# Altium footprint library MAX14930DASEplus.PcbLib: 3 footprints
Each footprint in its own frame and in the unit in brackets; x right, y up, seen from the top. Pads: shape width x height; smd on the part's side, far side on the other; paste and mask are expansions set on the pad; w line width, h text height; cw(c..) or ccw(c..) is an arc to the next point about the centre after c.
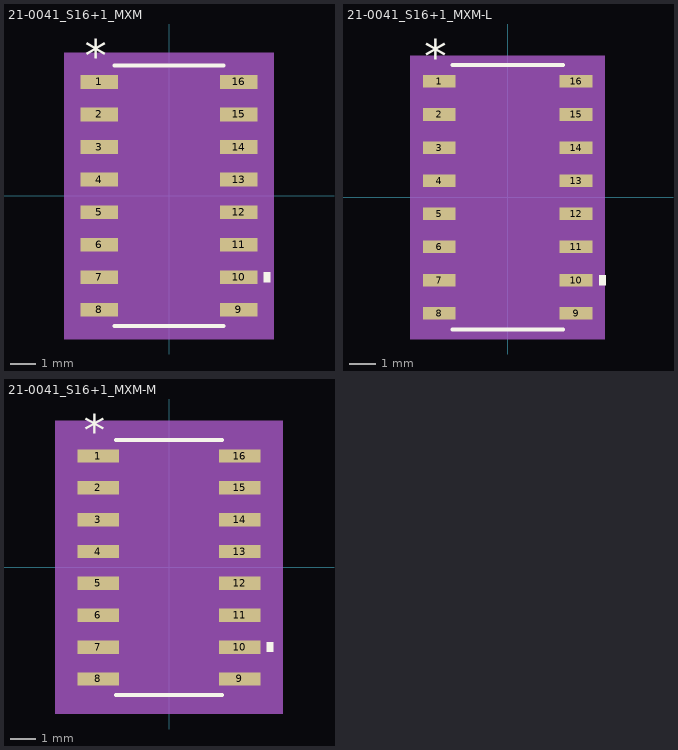
[diagram p0: the footprints below, top view; thin cyan lines are the x and y axes]

## 21-0041_S16+1_MXM [mil]
pads (16):
  rect 57.33x20.97 smd paste+0 mask+0: 1(-107.16,175) 2(-107.16,125) 3(-107.16,75) 4(-107.16,25) 5(-107.16,-25) 6(-107.16,-75) 7(-107.16,-125) 8(-107.16,-175) 9(107.16,-175) 10(107.16,-125) 11(107.16,-75) 12(107.16,-25) 13(107.16,25) 14(107.16,75) 15(107.16,125) 16(107.16,175)
Top Overlay:
  region: 145.83,-117.5 155.83,-117.5 155.83,-132.5 145.83,-132.5
  lines w6: -83.5,-200 83.5,-200 ; -83.5,200 83.5,200
  text "*" at -129.66,190.97 h50
Mechanical 5:
  region: 160.83,-220 -160.83,-220 -160.83,220 160.83,220
Mechanical 13:
  lines w0: -12,195 ccw(c0,195) 12,195
  lines w1: -122.05,-184.5 -78.5,-184.5 -78.5,-165.5 -122.05,-165.5 -122.05,-184.5 ; -122.05,-134.5 -78.5,-134.5 -78.5,-115.5 -122.05,-115.5 -122.05,-134.5 ; -122.05,-84.5 -78.5,-84.5 -78.5,-65.5 -122.05,-65.5 -122.05,-84.5 ; -122.05,-34.5 -78.5,-34.5 -78.5,-15.5 -122.05,-15.5 -122.05,-34.5 ; -122.05,15.5 -78.5,15.5 -78.5,34.5 -122.05,34.5 -122.05,15.5 ; -122.05,65.5 -78.5,65.5 -78.5,84.5 -122.05,84.5 -122.05,65.5 ; -122.05,115.5 -78.5,115.5 -78.5,134.5 -122.05,134.5 -122.05,115.5 ; -122.05,165.5 -78.5,165.5 -78.5,184.5 -122.05,184.5 -122.05,165.5 ; -78.5,-195 -78.5,195 78.5,195 78.5,-195 -78.5,-195 ; 78.5,-184.5 122.05,-184.5 122.05,-165.5 78.5,-165.5 78.5,-184.5 ; 78.5,-134.5 122.05,-134.5 122.05,-115.5 78.5,-115.5 78.5,-134.5 ; 78.5,-84.5 122.05,-84.5 122.05,-65.5 78.5,-65.5 78.5,-84.5 ; 78.5,-34.5 122.05,-34.5 122.05,-15.5 78.5,-15.5 78.5,-34.5 ; 78.5,15.5 122.05,15.5 122.05,34.5 78.5,34.5 78.5,15.5 ; 78.5,65.5 122.05,65.5 122.05,84.5 78.5,84.5 78.5,65.5 ; 78.5,115.5 122.05,115.5 122.05,134.5 78.5,134.5 78.5,115.5 ; 78.5,165.5 122.05,165.5 122.05,184.5 78.5,184.5 78.5,165.5
  text "*" at -76,142 h50
Mechanical 15:
  region: -88.5,-195.48 -145.83,-195.48 -145.83,195.48 -88.5,195.48 -88.5,205 88.5,205 88.5,195.48 145.83,195.48 145.83,-195.48 88.5,-195.48 88.5,-205 -88.5,-205
  lines w6: -145.83,-195.48 -88.5,-195.48 -88.5,-205 88.5,-205 88.5,-195.48 145.83,-195.48 145.83,195.48 88.5,195.48 88.5,205 -88.5,205 -88.5,195.48 -145.83,195.48 -145.83,-195.48
3D body "21-0041_S16+1_MXM.step": height 69.09, standoff 0, extent -122.05,-195 122.05,195

## 21-0041_S16+1_MXM-L [mil]
pads (16):
  rect 49.45x19 smd paste+0 mask+0: 1(-103.23,175) 2(-103.23,125) 3(-103.23,75) 4(-103.23,25) 5(-103.23,-25) 6(-103.23,-75) 7(-103.23,-125) 8(-103.23,-175) 9(103.23,-175) 10(103.23,-125) 11(103.23,-75) 12(103.23,-25) 13(103.23,25) 14(103.23,75) 15(103.23,125) 16(103.23,175)
Top Overlay:
  region: 137.95,-117.5 147.95,-117.5 147.95,-132.5 137.95,-132.5
  lines w6: -83.5,-200 83.5,-200 ; -83.5,200 83.5,200
  text "*" at -125.73,189 h50
Mechanical 5:
  region: 146.95,-214 -146.95,-214 -146.95,214 146.95,214
Mechanical 13:
  lines w0: -12,195 ccw(c0,195) 12,195
  lines w1: -122.05,-184.5 -122.05,-165.5 -78.5,-165.5 -78.5,-184.5 -122.05,-184.5 ; -122.05,-134.5 -122.05,-115.5 -78.5,-115.5 -78.5,-134.5 -122.05,-134.5 ; -122.05,-84.5 -122.05,-65.5 -78.5,-65.5 -78.5,-84.5 -122.05,-84.5 ; -122.05,-34.5 -122.05,-15.5 -78.5,-15.5 -78.5,-34.5 -122.05,-34.5 ; -122.05,15.5 -122.05,34.5 -78.5,34.5 -78.5,15.5 -122.05,15.5 ; -122.05,65.5 -122.05,84.5 -78.5,84.5 -78.5,65.5 -122.05,65.5 ; -122.05,115.5 -122.05,134.5 -78.5,134.5 -78.5,115.5 -122.05,115.5 ; -122.05,165.5 -122.05,184.5 -78.5,184.5 -78.5,165.5 -122.05,165.5 ; -78.5,-195 78.5,-195 78.5,195 -78.5,195 -78.5,-195 ; 78.5,-184.5 78.5,-165.5 122.05,-165.5 122.05,-184.5 78.5,-184.5 ; 78.5,-134.5 78.5,-115.5 122.05,-115.5 122.05,-134.5 78.5,-134.5 ; 78.5,-84.5 78.5,-65.5 122.05,-65.5 122.05,-84.5 78.5,-84.5 ; 78.5,-34.5 78.5,-15.5 122.05,-15.5 122.05,-34.5 78.5,-34.5 ; 78.5,15.5 78.5,34.5 122.05,34.5 122.05,15.5 78.5,15.5 ; 78.5,65.5 78.5,84.5 122.05,84.5 122.05,65.5 78.5,65.5 ; 78.5,115.5 78.5,134.5 122.05,134.5 122.05,115.5 78.5,115.5 ; 78.5,165.5 78.5,184.5 122.05,184.5 122.05,165.5 78.5,165.5
  text "*" at -76,142 h50
Mechanical 15:
  region: -82.5,-188.5 -131.95,-188.5 -131.95,188.5 -82.5,188.5 -82.5,199 82.5,199 82.5,188.5 131.95,188.5 131.95,-188.5 82.5,-188.5 82.5,-199 -82.5,-199
  lines w6: -131.95,-188.5 -131.95,188.5 -82.5,188.5 -82.5,199 82.5,199 82.5,188.5 131.95,188.5 131.95,-188.5 82.5,-188.5 82.5,-199 -82.5,-199 -82.5,-188.5 -131.95,-188.5
3D body "21-0041_S16+1_MXM.step": height 69.09, standoff 0, extent -122.05,-195 122.05,195

## 21-0041_S16+1_MXM-M [mil]
pads (16):
  rect 65.2x20.97 smd paste+0 mask+0: 1(-111.1,175) 2(-111.1,125) 3(-111.1,75) 4(-111.1,25) 5(-111.1,-25) 6(-111.1,-75) 7(-111.1,-125) 8(-111.1,-175) 9(111.1,-175) 10(111.1,-125) 11(111.1,-75) 12(111.1,-25) 13(111.1,25) 14(111.1,75) 15(111.1,125) 16(111.1,175)
Top Overlay:
  region: 153.7,-117.5 163.7,-117.5 163.7,-132.5 153.7,-132.5
  lines w6: -83.5,-200 83.5,-200 ; -83.5,200 83.5,200
  text "*" at -133.6,190.97 h50
Mechanical 5:
  region: 178.7,-230 -178.7,-230 -178.7,230 178.7,230
Mechanical 13:
  lines w0: -12,195 ccw(c0,195) 12,195
  lines w1: -122.05,-184.5 -122.05,-165.5 -78.5,-165.5 -78.5,-184.5 -122.05,-184.5 ; -122.05,-134.5 -122.05,-115.5 -78.5,-115.5 -78.5,-134.5 -122.05,-134.5 ; -122.05,-84.5 -122.05,-65.5 -78.5,-65.5 -78.5,-84.5 -122.05,-84.5 ; -122.05,-34.5 -122.05,-15.5 -78.5,-15.5 -78.5,-34.5 -122.05,-34.5 ; -122.05,15.5 -122.05,34.5 -78.5,34.5 -78.5,15.5 -122.05,15.5 ; -122.05,65.5 -122.05,84.5 -78.5,84.5 -78.5,65.5 -122.05,65.5 ; -122.05,115.5 -122.05,134.5 -78.5,134.5 -78.5,115.5 -122.05,115.5 ; -122.05,165.5 -122.05,184.5 -78.5,184.5 -78.5,165.5 -122.05,165.5 ; -78.5,-195 78.5,-195 78.5,195 -78.5,195 -78.5,-195 ; 78.5,-184.5 78.5,-165.5 122.05,-165.5 122.05,-184.5 78.5,-184.5 ; 78.5,-134.5 78.5,-115.5 122.05,-115.5 122.05,-134.5 78.5,-134.5 ; 78.5,-84.5 78.5,-65.5 122.05,-65.5 122.05,-84.5 78.5,-84.5 ; 78.5,-34.5 78.5,-15.5 122.05,-15.5 122.05,-34.5 78.5,-34.5 ; 78.5,15.5 78.5,34.5 122.05,34.5 122.05,15.5 78.5,15.5 ; 78.5,65.5 78.5,84.5 122.05,84.5 122.05,65.5 78.5,65.5 ; 78.5,115.5 78.5,134.5 122.05,134.5 122.05,115.5 78.5,115.5 ; 78.5,165.5 78.5,184.5 122.05,184.5 122.05,165.5 78.5,165.5
  text "*" at -76,142 h50
Mechanical 15:
  region: -98.5,-205.48 -163.7,-205.48 -163.7,205.48 -98.5,205.48 -98.5,215 98.5,215 98.5,205.48 163.7,205.48 163.7,-205.48 98.5,-205.48 98.5,-215 -98.5,-215
  lines w6: -163.7,-205.48 -163.7,205.48 -98.5,205.48 -98.5,215 98.5,215 98.5,205.48 163.7,205.48 163.7,-205.48 98.5,-205.48 98.5,-215 -98.5,-215 -98.5,-205.48 -163.7,-205.48
3D body "21-0041_S16+1_MXM.step": height 69.09, standoff 0, extent -122.05,-195 122.05,195